# EAGLE library part SIM300 (library SIM300)
SIM300 GSM module GPRS class 10, 900/1800/1900MHz B-B Device/symbol by haakon@avelia.no Package by vamsi.kodati@yahoo.com
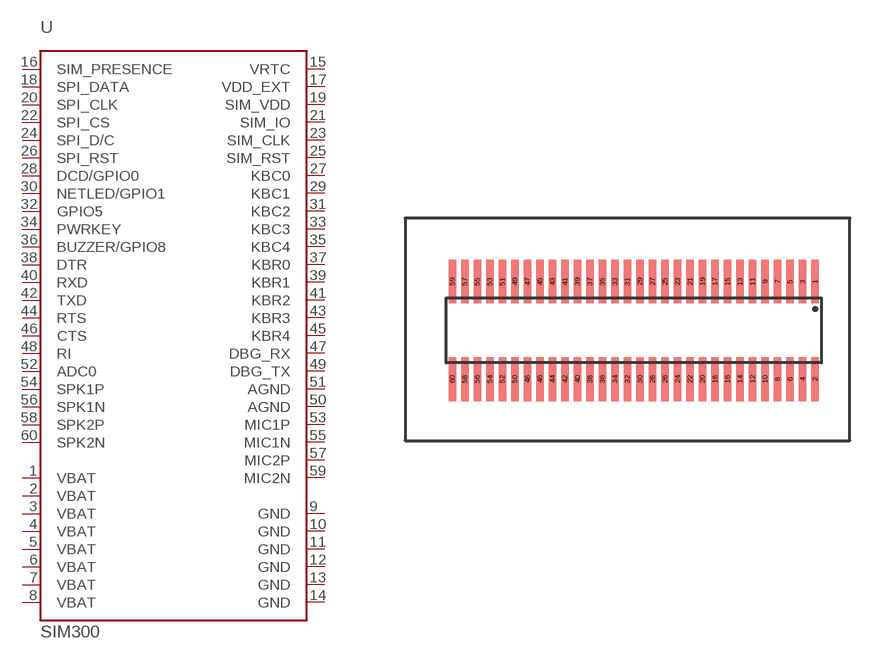
[diagram p0: symbol with the pads of 1008-G60N-01R; footprint 1008-G60N-01R]

Designator prefix -

## SIM3001008-G60N-01R  [1008-G60N-01R]
1  VBAT  pwr
2  VBAT  pwr
3  VBAT  pwr
4  VBAT  pwr
5  VBAT  pwr
6  VBAT  pwr
7  VBAT  pwr
8  VBAT  pwr
9  GND  pwr
10  GND  pwr
11  GND  pwr
12  GND  pwr
13  GND  pwr
14  GND  pwr
15  VRTC
16  SIM_PRESENCE  in
17  VDD_EXT  pwr
18  SPI_DATA
19  SIM_VDD  pwr
20  SPI_CLK
21  SIM_IO
22  SPI_CS  in
23  SIM_CLK  out
24  SPI_D/C
25  SIM_RST  out
26  SPI_RST  in
27  KBC0
28  DCD/GPIO0
29  KBC1
30  NETLED/GPIO1
31  KBC2
32  GPIO5
33  KBC3
34  PWRKEY  in
35  KBC4
36  BUZZER/GPIO8
37  KBR0
38  DTR
39  KBR1
40  RXD  in
41  KBR2
42  TXD  out
43  KBR3
44  RTS
45  KBR4
46  CTS
47  DBG_RX  in
48  RI  out
49  DBG_TX  out
50  AGND  in
51  AGND  pwr
52  ADC0  in
53  MIC1P  in
54  SPK1P  out
55  MIC1N  in
56  SPK1N  out
57  MIC2P  in
58  SPK2P  out
59  MIC2N  in
60  SPK2N  out

## Footprint 1008-G60N-01R (pad centres in mm)
smd 0.3 x 1.75: 1 -0.12,1.27; 2 -0.12,-2.63; 3 -0.62,1.27; 4 -0.62,-2.63; 5 -1.12,1.27; 6 -1.12,-2.63; 7 -1.62,1.27; 8 -1.62,-2.63; 9 -2.12,1.27; 10 -2.12,-2.63; 11 -2.62,1.27; 12 -2.62,-2.63; 13 -3.12,1.27; 14 -3.12,-2.63; 15 -3.62,1.27; 16 -3.62,-2.63; 17 -4.12,1.27; 18 -4.12,-2.63; 19 -4.62,1.27; 20 -4.62,-2.63; 21 -5.12,1.27; 22 -5.12,-2.63; 23 -5.62,1.27; 24 -5.62,-2.63; 25 -6.12,1.27; 26 -6.12,-2.63; 27 -6.62,1.27; 28 -6.62,-2.63; 29 -7.12,1.27; 30 -7.12,-2.63; 31 -7.62,1.27; 32 -7.62,-2.63; 33 -8.12,1.27; 34 -8.12,-2.63; 35 -8.62,1.27; 36 -8.62,-2.63; 37 -9.12,1.27; 38 -9.12,-2.63; 39 -9.62,1.27; 40 -9.62,-2.63; 41 -10.12,1.27; 42 -10.12,-2.63; 43 -10.62,1.27; 44 -10.62,-2.63; 45 -11.12,1.27; 46 -11.12,-2.63; 47 -11.62,1.27; 48 -11.62,-2.63; 49 -12.12,1.27; 50 -12.12,-2.63; 51 -12.62,1.27; 52 -12.62,-2.63; 53 -13.12,1.27; 54 -13.12,-2.63; 55 -13.62,1.27; 56 -13.62,-2.63; 57 -14.12,1.27; 58 -14.12,-2.63; 59 -14.62,1.27; 60 -14.62,-2.63